# Altium integrated library NSC Simple PLD.IntLib: 508 symbols (part 9 of 10)
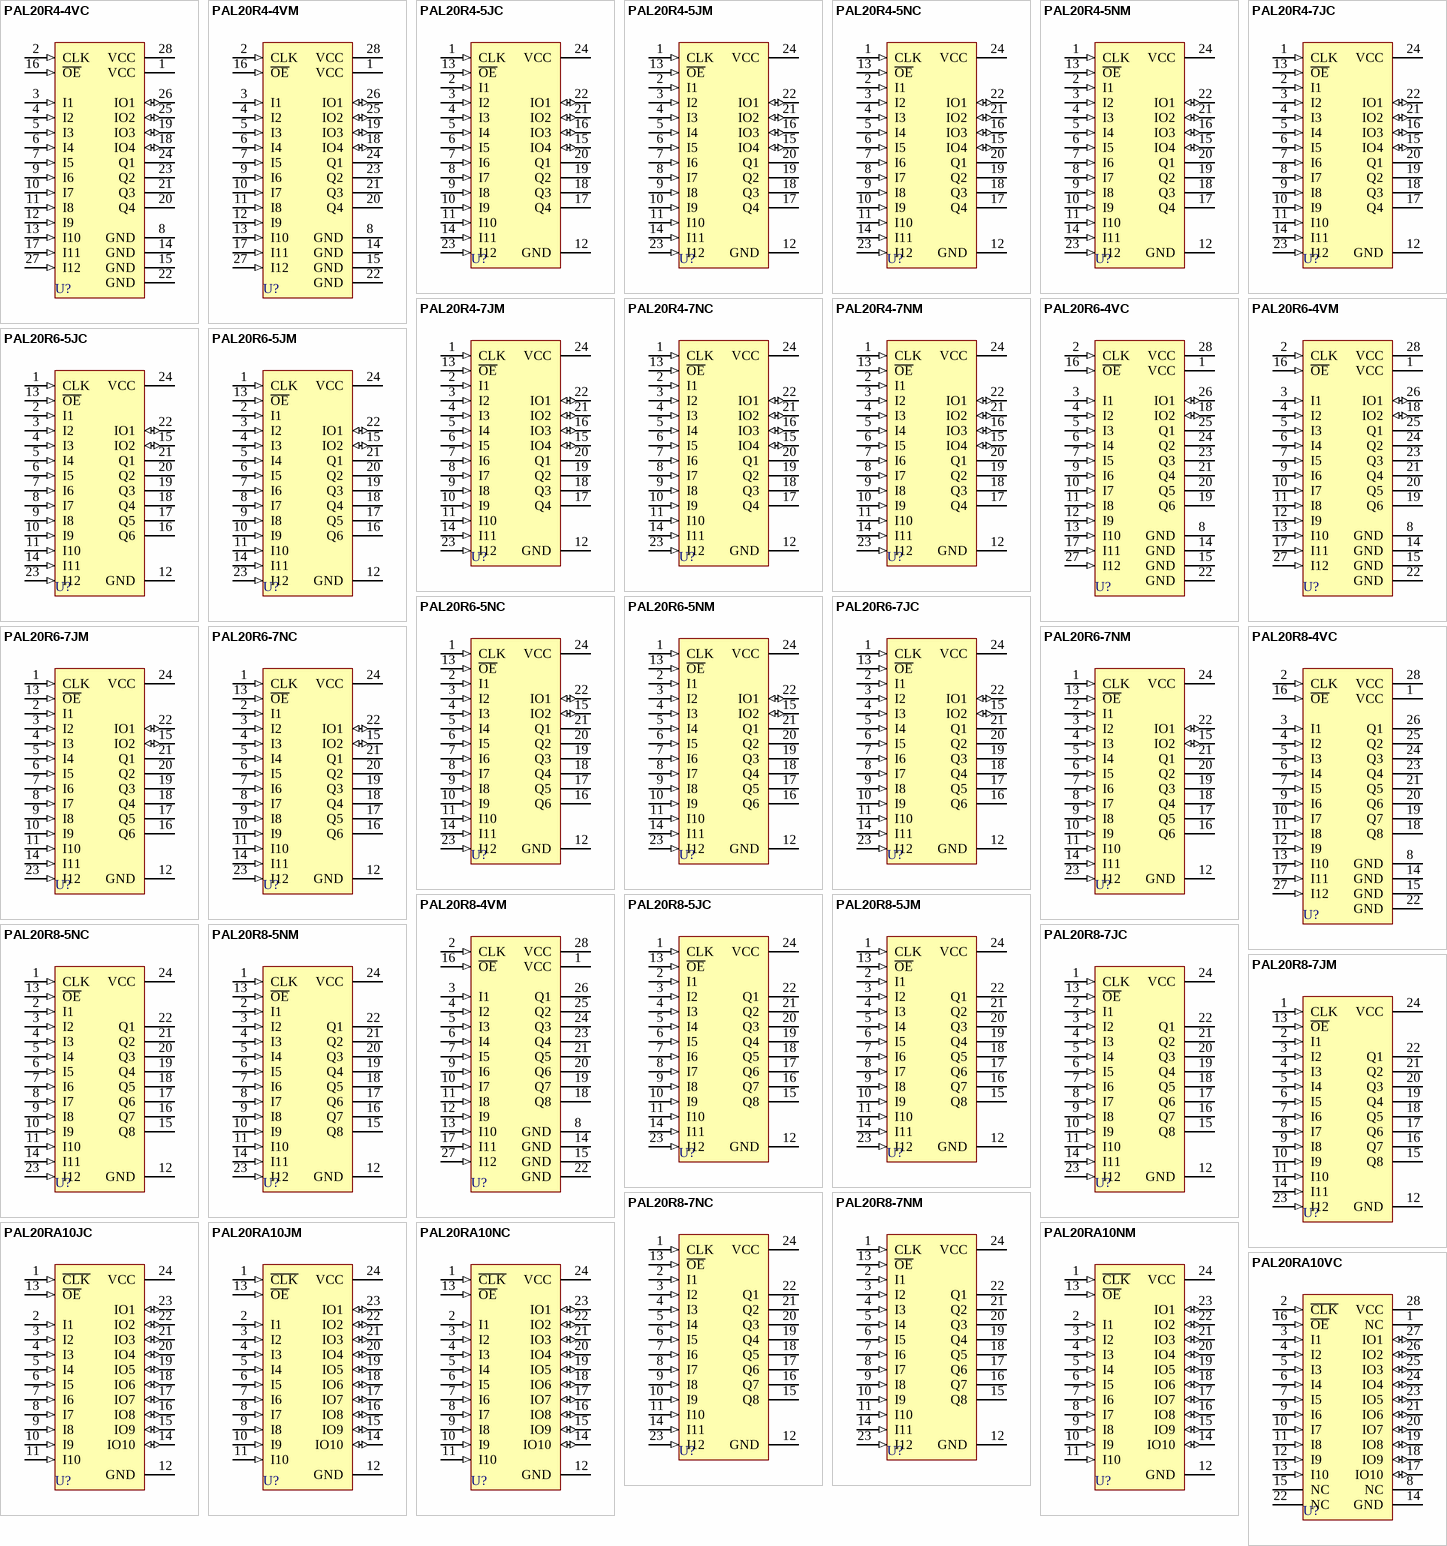
[diagram p22: symbols PAL20R4-4VC to PAL20RA10VC]

## PAL20R8-5JC
designator U?
24-Pin Medium PAL; Published: 15-Apr-2002; LatestRevisionDate: 04-Mar-2005; LatestRevisionNote: Stylized 3D Model Added.; DatasheetVersion: 1991; PackageVersion: 2000; PackageReference: J24F; Publisher: Altium Limited; PackageDescription: DIP; 24 Leads; Row Spacing 7.62 mm; Pitch 2.54 mm; Code_JEDEC: MS-001-AF; ComponentLink1Description: Manufacturer Link; ComponentLink1URL: http://www.national.com/
footprint J24F (DIP; 24 Leads; Row Spacing 7.62 mm; Pitch 2.54 mm)
3D model J24F (DIP; 24 Leads; Row Spacing 7.62 mm; Pitch 2.54 mm)
pins: 1 CLK (in), 2 I1 (in), 3 I2 (in), 4 I3 (in), 5 I4 (in), 6 I5 (in), 7 I6 (in), 8 I7 (in), 9 I8 (in), 10 I9 (in), 11 I10 (in), 12 GND (power), 13 ~{OE} (in), 14 I11 (in), 15 Q8 (hiz), 16 Q7 (hiz), 17 Q6 (hiz), 18 Q5 (hiz), 19 Q4 (hiz), 20 Q3 (hiz), 21 Q2 (hiz), 22 Q1 (hiz), 23 I12 (in), 24 VCC (power)

## PAL20R8-5JM
designator U?
24-Pin Medium PAL; Published: 15-Apr-2002; LatestRevisionDate: 04-Mar-2005; LatestRevisionNote: Stylized 3D Model Added.; DatasheetVersion: 1991; PackageVersion: 2000; PackageReference: J24F; Publisher: Altium Limited; PackageDescription: DIP; 24 Leads; Row Spacing 7.62 mm; Pitch 2.54 mm; Code_JEDEC: MS-001-AF; ComponentLink1Description: Manufacturer Link; ComponentLink1URL: http://www.national.com/
footprint J24F (DIP; 24 Leads; Row Spacing 7.62 mm; Pitch 2.54 mm)
3D model J24F (DIP; 24 Leads; Row Spacing 7.62 mm; Pitch 2.54 mm)
pins: 1 CLK (in), 2 I1 (in), 3 I2 (in), 4 I3 (in), 5 I4 (in), 6 I5 (in), 7 I6 (in), 8 I7 (in), 9 I8 (in), 10 I9 (in), 11 I10 (in), 12 GND (power), 13 ~{OE} (in), 14 I11 (in), 15 Q8 (hiz), 16 Q7 (hiz), 17 Q6 (hiz), 18 Q5 (hiz), 19 Q4 (hiz), 20 Q3 (hiz), 21 Q2 (hiz), 22 Q1 (hiz), 23 I12 (in), 24 VCC (power)

## PAL20R8-5NC
designator U?
24-Pin Medium PAL; Published: 15-Apr-2002; LatestRevisionDate: 04-Mar-2005; LatestRevisionNote: Stylized 3D Model Added.; DatasheetVersion: 1991; PackageVersion: 2000; PackageReference: N24C; Publisher: Altium Limited; PackageDescription: DIP; 24 Leads; Row Spacing 7.62 mm; Pitch 2.54 mm; Code_JEDEC: MS-001-AF; ComponentLink1Description: Manufacturer Link; ComponentLink1URL: http://www.national.com/
footprint N24C (DIP; 24 Leads; Row Spacing 7.62 mm; Pitch 2.54 mm)
3D model J24F (DIP; 24 Leads; Row Spacing 7.62 mm; Pitch 2.54 mm)
pins: 1 CLK (in), 2 I1 (in), 3 I2 (in), 4 I3 (in), 5 I4 (in), 6 I5 (in), 7 I6 (in), 8 I7 (in), 9 I8 (in), 10 I9 (in), 11 I10 (in), 12 GND (power), 13 ~{OE} (in), 14 I11 (in), 15 Q8 (hiz), 16 Q7 (hiz), 17 Q6 (hiz), 18 Q5 (hiz), 19 Q4 (hiz), 20 Q3 (hiz), 21 Q2 (hiz), 22 Q1 (hiz), 23 I12 (in), 24 VCC (power)

## PAL20R8-5NM
designator U?
24-Pin Medium PAL; Published: 15-Apr-2002; LatestRevisionDate: 04-Mar-2005; LatestRevisionNote: Stylized 3D Model Added.; DatasheetVersion: 1991; PackageVersion: 2000; PackageReference: N24C; Publisher: Altium Limited; PackageDescription: DIP; 24 Leads; Row Spacing 7.62 mm; Pitch 2.54 mm; Code_JEDEC: MS-001-AF; ComponentLink1Description: Manufacturer Link; ComponentLink1URL: http://www.national.com/
footprint N24C (DIP; 24 Leads; Row Spacing 7.62 mm; Pitch 2.54 mm)
3D model J24F (DIP; 24 Leads; Row Spacing 7.62 mm; Pitch 2.54 mm)
pins: 1 CLK (in), 2 I1 (in), 3 I2 (in), 4 I3 (in), 5 I4 (in), 6 I5 (in), 7 I6 (in), 8 I7 (in), 9 I8 (in), 10 I9 (in), 11 I10 (in), 12 GND (power), 13 ~{OE} (in), 14 I11 (in), 15 Q8 (hiz), 16 Q7 (hiz), 17 Q6 (hiz), 18 Q5 (hiz), 19 Q4 (hiz), 20 Q3 (hiz), 21 Q2 (hiz), 22 Q1 (hiz), 23 I12 (in), 24 VCC (power)

## PAL20R8-7JC
designator U?
24-Pin Medium PAL; Published: 15-Apr-2002; LatestRevisionDate: 04-Mar-2005; LatestRevisionNote: Stylized 3D Model Added.; DatasheetVersion: 1991; PackageVersion: 2000; PackageReference: J24F; Publisher: Altium Limited; PackageDescription: DIP; 24 Leads; Row Spacing 7.62 mm; Pitch 2.54 mm; Code_JEDEC: MS-001-AF; ComponentLink1Description: Manufacturer Link; ComponentLink1URL: http://www.national.com/
footprint J24F (DIP; 24 Leads; Row Spacing 7.62 mm; Pitch 2.54 mm)
3D model J24F (DIP; 24 Leads; Row Spacing 7.62 mm; Pitch 2.54 mm)
pins: 1 CLK (in), 2 I1 (in), 3 I2 (in), 4 I3 (in), 5 I4 (in), 6 I5 (in), 7 I6 (in), 8 I7 (in), 9 I8 (in), 10 I9 (in), 11 I10 (in), 12 GND (power), 13 ~{OE} (in), 14 I11 (in), 15 Q8 (hiz), 16 Q7 (hiz), 17 Q6 (hiz), 18 Q5 (hiz), 19 Q4 (hiz), 20 Q3 (hiz), 21 Q2 (hiz), 22 Q1 (hiz), 23 I12 (in), 24 VCC (power)

## PAL20R8-7JM
designator U?
24-Pin Medium PAL; Published: 15-Apr-2002; LatestRevisionDate: 04-Mar-2005; LatestRevisionNote: Stylized 3D Model Added.; DatasheetVersion: 1991; PackageVersion: 2000; PackageReference: J24F; Publisher: Altium Limited; PackageDescription: DIP; 24 Leads; Row Spacing 7.62 mm; Pitch 2.54 mm; Code_JEDEC: MS-001-AF; ComponentLink1Description: Manufacturer Link; ComponentLink1URL: http://www.national.com/
footprint J24F (DIP; 24 Leads; Row Spacing 7.62 mm; Pitch 2.54 mm)
3D model J24F (DIP; 24 Leads; Row Spacing 7.62 mm; Pitch 2.54 mm)
pins: 1 CLK (in), 2 I1 (in), 3 I2 (in), 4 I3 (in), 5 I4 (in), 6 I5 (in), 7 I6 (in), 8 I7 (in), 9 I8 (in), 10 I9 (in), 11 I10 (in), 12 GND (power), 13 ~{OE} (in), 14 I11 (in), 15 Q8 (hiz), 16 Q7 (hiz), 17 Q6 (hiz), 18 Q5 (hiz), 19 Q4 (hiz), 20 Q3 (hiz), 21 Q2 (hiz), 22 Q1 (hiz), 23 I12 (in), 24 VCC (power)

## PAL20R8-7NC
designator U?
24-Pin Medium PAL; Published: 15-Apr-2002; LatestRevisionDate: 04-Mar-2005; LatestRevisionNote: Stylized 3D Model Added.; DatasheetVersion: 1991; PackageVersion: 2000; PackageReference: N24C; Publisher: Altium Limited; PackageDescription: DIP; 24 Leads; Row Spacing 7.62 mm; Pitch 2.54 mm; Code_JEDEC: MS-001-AF; ComponentLink1Description: Manufacturer Link; ComponentLink1URL: http://www.national.com/
footprint N24C (DIP; 24 Leads; Row Spacing 7.62 mm; Pitch 2.54 mm)
3D model J24F (DIP; 24 Leads; Row Spacing 7.62 mm; Pitch 2.54 mm)
pins: 1 CLK (in), 2 I1 (in), 3 I2 (in), 4 I3 (in), 5 I4 (in), 6 I5 (in), 7 I6 (in), 8 I7 (in), 9 I8 (in), 10 I9 (in), 11 I10 (in), 12 GND (power), 13 ~{OE} (in), 14 I11 (in), 15 Q8 (hiz), 16 Q7 (hiz), 17 Q6 (hiz), 18 Q5 (hiz), 19 Q4 (hiz), 20 Q3 (hiz), 21 Q2 (hiz), 22 Q1 (hiz), 23 I12 (in), 24 VCC (power)

## PAL20R8-7NM
designator U?
24-Pin Medium PAL; Published: 15-Apr-2002; LatestRevisionDate: 04-Mar-2005; LatestRevisionNote: Stylized 3D Model Added.; DatasheetVersion: 1991; PackageVersion: 2000; PackageReference: N24C; Publisher: Altium Limited; PackageDescription: DIP; 24 Leads; Row Spacing 7.62 mm; Pitch 2.54 mm; Code_JEDEC: MS-001-AF; ComponentLink1Description: Manufacturer Link; ComponentLink1URL: http://www.national.com/
footprint N24C (DIP; 24 Leads; Row Spacing 7.62 mm; Pitch 2.54 mm)
3D model J24F (DIP; 24 Leads; Row Spacing 7.62 mm; Pitch 2.54 mm)
pins: 1 CLK (in), 2 I1 (in), 3 I2 (in), 4 I3 (in), 5 I4 (in), 6 I5 (in), 7 I6 (in), 8 I7 (in), 9 I8 (in), 10 I9 (in), 11 I10 (in), 12 GND (power), 13 ~{OE} (in), 14 I11 (in), 15 Q8 (hiz), 16 Q7 (hiz), 17 Q6 (hiz), 18 Q5 (hiz), 19 Q4 (hiz), 20 Q3 (hiz), 21 Q2 (hiz), 22 Q1 (hiz), 23 I12 (in), 24 VCC (power)

## PAL20RA10JC
designator U?
24-Pin PAL; Published: 15-Apr-2002; LatestRevisionDate: 04-Mar-2005; LatestRevisionNote: Stylized 3D Model Added.; DatasheetVersion: 1990; PackageVersion: 2000; PackageReference: J24F; Publisher: Altium Limited; PackageDescription: DIP; 24 Leads; Row Spacing 7.62 mm; Pitch 2.54 mm; Code_JEDEC: MS-001-AF; ComponentLink1Description: Manufacturer Link; ComponentLink1URL: http://www.national.com/
footprint J24F (DIP; 24 Leads; Row Spacing 7.62 mm; Pitch 2.54 mm)
3D model J24F (DIP; 24 Leads; Row Spacing 7.62 mm; Pitch 2.54 mm)
pins: 1 ~{CLK} (in), 2 I1 (in), 3 I2 (in), 4 I3 (in), 5 I4 (in), 6 I5 (in), 7 I6 (in), 8 I7 (in), 9 I8 (in), 10 I9 (in), 11 I10 (in), 12 GND (power), 13 ~{OE} (in), 14 IO10 (io), 15 IO9 (io), 16 IO8 (io), 17 IO7 (io), 18 IO6 (io), 19 IO5 (io), 20 IO4 (io), 21 IO3 (io), 22 IO2 (io), 23 IO1 (io), 24 VCC (power)

## PAL20RA10JM
designator U?
24-Pin PAL; Published: 15-Apr-2002; LatestRevisionDate: 04-Mar-2005; LatestRevisionNote: Stylized 3D Model Added.; DatasheetVersion: 1990; PackageVersion: 2000; PackageReference: J24F; Publisher: Altium Limited; PackageDescription: DIP; 24 Leads; Row Spacing 7.62 mm; Pitch 2.54 mm; Code_JEDEC: MS-001-AF; ComponentLink1Description: Manufacturer Link; ComponentLink1URL: http://www.national.com/
footprint J24F (DIP; 24 Leads; Row Spacing 7.62 mm; Pitch 2.54 mm)
3D model J24F (DIP; 24 Leads; Row Spacing 7.62 mm; Pitch 2.54 mm)
pins: 1 ~{CLK} (in), 2 I1 (in), 3 I2 (in), 4 I3 (in), 5 I4 (in), 6 I5 (in), 7 I6 (in), 8 I7 (in), 9 I8 (in), 10 I9 (in), 11 I10 (in), 12 GND (power), 13 ~{OE} (in), 14 IO10 (io), 15 IO9 (io), 16 IO8 (io), 17 IO7 (io), 18 IO6 (io), 19 IO5 (io), 20 IO4 (io), 21 IO3 (io), 22 IO2 (io), 23 IO1 (io), 24 VCC (power)

## PAL20RA10NC
designator U?
24-Pin PAL; Published: 15-Apr-2002; LatestRevisionDate: 04-Mar-2005; LatestRevisionNote: Stylized 3D Model Added.; DatasheetVersion: 1990; PackageVersion: 2000; PackageReference: N24C; Publisher: Altium Limited; PackageDescription: DIP; 24 Leads; Row Spacing 7.62 mm; Pitch 2.54 mm; Code_JEDEC: MS-001-AF; ComponentLink1Description: Manufacturer Link; ComponentLink1URL: http://www.national.com/
footprint N24C (DIP; 24 Leads; Row Spacing 7.62 mm; Pitch 2.54 mm)
3D model J24F (DIP; 24 Leads; Row Spacing 7.62 mm; Pitch 2.54 mm)
pins: 1 ~{CLK} (in), 2 I1 (in), 3 I2 (in), 4 I3 (in), 5 I4 (in), 6 I5 (in), 7 I6 (in), 8 I7 (in), 9 I8 (in), 10 I9 (in), 11 I10 (in), 12 GND (power), 13 ~{OE} (in), 14 IO10 (io), 15 IO9 (io), 16 IO8 (io), 17 IO7 (io), 18 IO6 (io), 19 IO5 (io), 20 IO4 (io), 21 IO3 (io), 22 IO2 (io), 23 IO1 (io), 24 VCC (power)

## PAL20RA10NM
designator U?
24-Pin PAL; Published: 15-Apr-2002; LatestRevisionDate: 04-Mar-2005; LatestRevisionNote: Stylized 3D Model Added.; DatasheetVersion: 1990; PackageVersion: 2000; PackageReference: N24C; Publisher: Altium Limited; PackageDescription: DIP; 24 Leads; Row Spacing 7.62 mm; Pitch 2.54 mm; Code_JEDEC: MS-001-AF; ComponentLink1Description: Manufacturer Link; ComponentLink1URL: http://www.national.com/
footprint N24C (DIP; 24 Leads; Row Spacing 7.62 mm; Pitch 2.54 mm)
3D model J24F (DIP; 24 Leads; Row Spacing 7.62 mm; Pitch 2.54 mm)
pins: 1 ~{CLK} (in), 2 I1 (in), 3 I2 (in), 4 I3 (in), 5 I4 (in), 6 I5 (in), 7 I6 (in), 8 I7 (in), 9 I8 (in), 10 I9 (in), 11 I10 (in), 12 GND (power), 13 ~{OE} (in), 14 IO10 (io), 15 IO9 (io), 16 IO8 (io), 17 IO7 (io), 18 IO6 (io), 19 IO5 (io), 20 IO4 (io), 21 IO3 (io), 22 IO2 (io), 23 IO1 (io), 24 VCC (power)

## PAL20RA10VC
designator U?
28-Pin PAL; Published: 15-Apr-2002; LatestRevisionDate: 13-Apr-2006; LatestRevisionNote: IPC-7351 Footprint Added.; DatasheetVersion: 1990; PackageVersion: 2000; PackageReference: V28A; Publisher: Altium Limited; PackageDescription: 28-Pin Leaded Chip Carrier 1.27 mm Pitch; Code_IPC: PLCC-28; ComponentLink1Description: Manufacturer Link; ComponentLink1URL: http://www.national.com/
footprint V28A_N (Leaded Chip Carrier, 28-Leads, Body 11.5x11.5mm, Pitch 1.27mm, IPC Medium Density)
footprint V28A_L (Leaded Chip Carrier, 28-Leads, Body 11.5x11.5mm, Pitch 1.27mm, IPC High Density)
footprint V28A_M (Leaded Chip Carrier, 28-Leads, Body 11.5x11.5mm, Pitch 1.27mm, IPC Low Density)
3D model PAL20RA10-V28A (28-Pin Leaded Chip Carrier 1.27 mm Pitch)
pins: 1 NC, 2 ~{CLK} (in), 3 I1 (in), 4 I2 (in), 5 I3 (in), 6 I4 (in), 7 I5 (in), 8 NC, 9 I6 (in), 10 I7 (in), 11 I8 (in), 12 I9 (in), 13 I10 (in), 14 GND (power), 15 NC, 16 ~{OE} (in), 17 IO10 (io), 18 IO9 (io), 19 IO8 (io), 20 IO7 (io), 21 IO6 (io), 22 NC, 23 IO5 (io), 24 IO4 (io), 25 IO3 (io), 26 IO2 (io), 27 IO1 (io), 28 VCC (power)

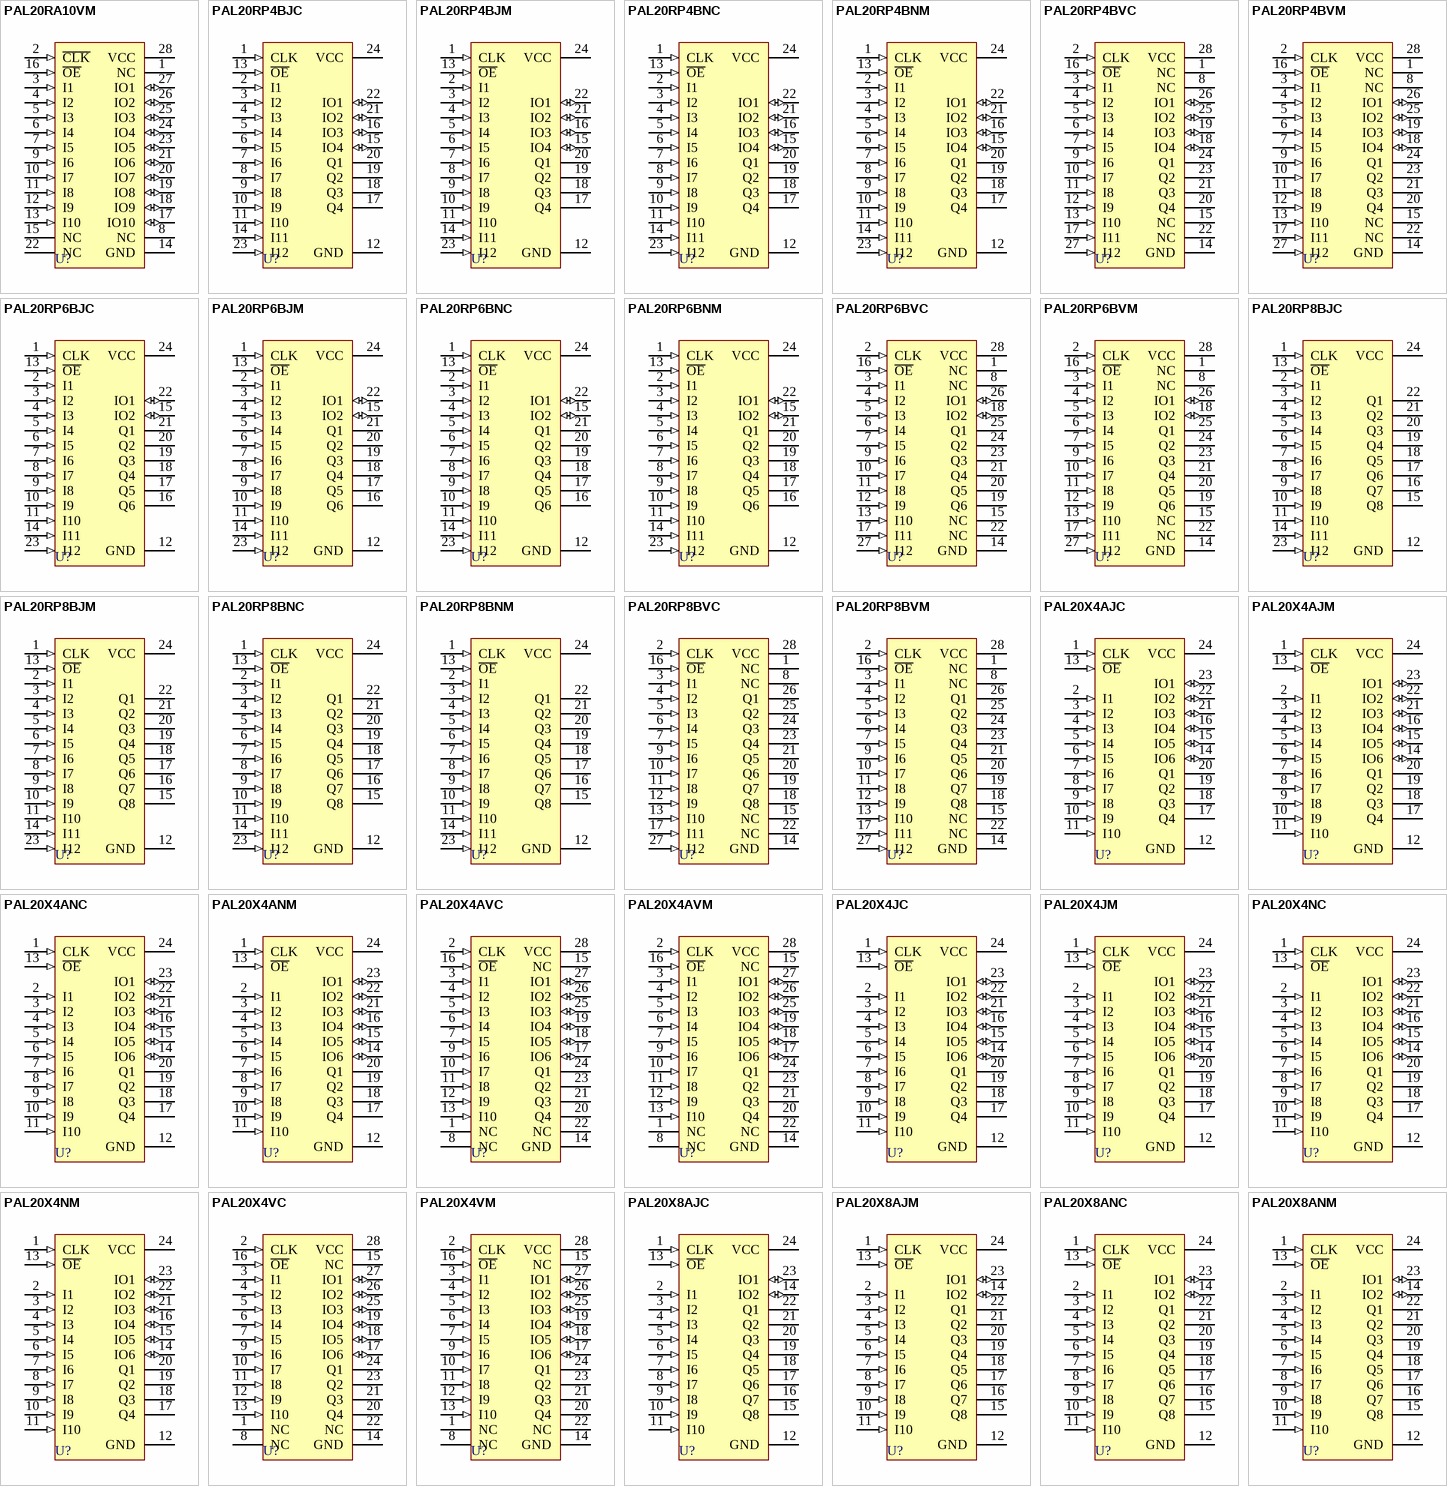
[diagram p13: symbols PAL20RA10VM to PAL20X8ANM]

## PAL20RA10VM
designator U?
28-Pin PAL; Published: 15-Apr-2002; LatestRevisionDate: 13-Apr-2006; LatestRevisionNote: IPC-7351 Footprint Added.; DatasheetVersion: 1990; PackageVersion: 2000; PackageReference: V28A; Publisher: Altium Limited; PackageDescription: 28-Pin Leaded Chip Carrier 1.27 mm Pitch; Code_IPC: PLCC-28; ComponentLink1Description: Manufacturer Link; ComponentLink1URL: http://www.national.com/
footprint V28A_N (Leaded Chip Carrier, 28-Leads, Body 11.5x11.5mm, Pitch 1.27mm, IPC Medium Density)
footprint V28A_L (Leaded Chip Carrier, 28-Leads, Body 11.5x11.5mm, Pitch 1.27mm, IPC High Density)
footprint V28A_M (Leaded Chip Carrier, 28-Leads, Body 11.5x11.5mm, Pitch 1.27mm, IPC Low Density)
3D model PAL20RA10-V28A (28-Pin Leaded Chip Carrier 1.27 mm Pitch)
pins: 1 NC, 2 ~{CLK} (in), 3 I1 (in), 4 I2 (in), 5 I3 (in), 6 I4 (in), 7 I5 (in), 8 NC, 9 I6 (in), 10 I7 (in), 11 I8 (in), 12 I9 (in), 13 I10 (in), 14 GND (power), 15 NC, 16 ~{OE} (in), 17 IO10 (io), 18 IO9 (io), 19 IO8 (io), 20 IO7 (io), 21 IO6 (io), 22 NC, 23 IO5 (io), 24 IO4 (io), 25 IO3 (io), 26 IO2 (io), 27 IO1 (io), 28 VCC (power)

## PAL20RP4BJC
designator U?
24-Pin Polarity PAL; Published: 15-Apr-2002; LatestRevisionDate: 04-Mar-2005; LatestRevisionNote: Stylized 3D Model Added.; DatasheetVersion: 1990; PackageVersion: 2000; PackageReference: J24F; Publisher: Altium Limited; PackageDescription: DIP; 24 Leads; Row Spacing 7.62 mm; Pitch 2.54 mm; Code_JEDEC: MS-001-AF; ComponentLink1Description: Manufacturer Link; ComponentLink1URL: http://www.national.com/
footprint J24F (DIP; 24 Leads; Row Spacing 7.62 mm; Pitch 2.54 mm)
3D model J24F (DIP; 24 Leads; Row Spacing 7.62 mm; Pitch 2.54 mm)
pins: 1 CLK (in), 2 I1 (in), 3 I2 (in), 4 I3 (in), 5 I4 (in), 6 I5 (in), 7 I6 (in), 8 I7 (in), 9 I8 (in), 10 I9 (in), 11 I10 (in), 12 GND (power), 13 ~{OE} (in), 14 I11 (in), 15 IO4 (io), 16 IO3 (io), 17 Q4 (hiz), 18 Q3 (hiz), 19 Q2 (hiz), 20 Q1 (hiz), 21 IO2 (io), 22 IO1 (io), 23 I12 (in), 24 VCC (power)

## PAL20RP4BJM
designator U?
24-Pin Polarity PAL; Published: 15-Apr-2002; LatestRevisionDate: 04-Mar-2005; LatestRevisionNote: Stylized 3D Model Added.; DatasheetVersion: 1990; PackageVersion: 2000; PackageReference: J24F; Publisher: Altium Limited; PackageDescription: DIP; 24 Leads; Row Spacing 7.62 mm; Pitch 2.54 mm; Code_JEDEC: MS-001-AF; ComponentLink1Description: Manufacturer Link; ComponentLink1URL: http://www.national.com/
footprint J24F (DIP; 24 Leads; Row Spacing 7.62 mm; Pitch 2.54 mm)
3D model J24F (DIP; 24 Leads; Row Spacing 7.62 mm; Pitch 2.54 mm)
pins: 1 CLK (in), 2 I1 (in), 3 I2 (in), 4 I3 (in), 5 I4 (in), 6 I5 (in), 7 I6 (in), 8 I7 (in), 9 I8 (in), 10 I9 (in), 11 I10 (in), 12 GND (power), 13 ~{OE} (in), 14 I11 (in), 15 IO4 (io), 16 IO3 (io), 17 Q4 (hiz), 18 Q3 (hiz), 19 Q2 (hiz), 20 Q1 (hiz), 21 IO2 (io), 22 IO1 (io), 23 I12 (in), 24 VCC (power)

## PAL20RP4BNC
designator U?
24-Pin Polarity PAL; Published: 15-Apr-2002; LatestRevisionDate: 04-Mar-2005; LatestRevisionNote: Stylized 3D Model Added.; DatasheetVersion: 1990; PackageVersion: 2000; PackageReference: N24C; Publisher: Altium Limited; PackageDescription: DIP; 24 Leads; Row Spacing 7.62 mm; Pitch 2.54 mm; Code_JEDEC: MS-001-AF; ComponentLink1Description: Manufacturer Link; ComponentLink1URL: http://www.national.com/
footprint N24C (DIP; 24 Leads; Row Spacing 7.62 mm; Pitch 2.54 mm)
3D model J24F (DIP; 24 Leads; Row Spacing 7.62 mm; Pitch 2.54 mm)
pins: 1 CLK (in), 2 I1 (in), 3 I2 (in), 4 I3 (in), 5 I4 (in), 6 I5 (in), 7 I6 (in), 8 I7 (in), 9 I8 (in), 10 I9 (in), 11 I10 (in), 12 GND (power), 13 ~{OE} (in), 14 I11 (in), 15 IO4 (io), 16 IO3 (io), 17 Q4 (hiz), 18 Q3 (hiz), 19 Q2 (hiz), 20 Q1 (hiz), 21 IO2 (io), 22 IO1 (io), 23 I12 (in), 24 VCC (power)

## PAL20RP4BNM
designator U?
24-Pin Polarity PAL; Published: 15-Apr-2002; LatestRevisionDate: 04-Mar-2005; LatestRevisionNote: Stylized 3D Model Added.; DatasheetVersion: 1990; PackageVersion: 2000; PackageReference: N24C; Publisher: Altium Limited; PackageDescription: DIP; 24 Leads; Row Spacing 7.62 mm; Pitch 2.54 mm; Code_JEDEC: MS-001-AF; ComponentLink1Description: Manufacturer Link; ComponentLink1URL: http://www.national.com/
footprint N24C (DIP; 24 Leads; Row Spacing 7.62 mm; Pitch 2.54 mm)
3D model J24F (DIP; 24 Leads; Row Spacing 7.62 mm; Pitch 2.54 mm)
pins: 1 CLK (in), 2 I1 (in), 3 I2 (in), 4 I3 (in), 5 I4 (in), 6 I5 (in), 7 I6 (in), 8 I7 (in), 9 I8 (in), 10 I9 (in), 11 I10 (in), 12 GND (power), 13 ~{OE} (in), 14 I11 (in), 15 IO4 (io), 16 IO3 (io), 17 Q4 (hiz), 18 Q3 (hiz), 19 Q2 (hiz), 20 Q1 (hiz), 21 IO2 (io), 22 IO1 (io), 23 I12 (in), 24 VCC (power)

## PAL20RP4BVC
designator U?
28-Pin Polarity PAL; Published: 15-Apr-2002; LatestRevisionDate: 13-Apr-2006; LatestRevisionNote: IPC-7351 Footprint Added.; DatasheetVersion: 1990; PackageVersion: 2000; PackageReference: V28A; Publisher: Altium Limited; PackageDescription: 28-Pin Leaded Chip Carrier 1.27 mm Pitch; Code_IPC: PLCC-28; ComponentLink1Description: Manufacturer Link; ComponentLink1URL: http://www.national.com/
footprint V28A_N (Leaded Chip Carrier, 28-Leads, Body 11.5x11.5mm, Pitch 1.27mm, IPC Medium Density)
footprint V28A_L (Leaded Chip Carrier, 28-Leads, Body 11.5x11.5mm, Pitch 1.27mm, IPC High Density)
footprint V28A_M (Leaded Chip Carrier, 28-Leads, Body 11.5x11.5mm, Pitch 1.27mm, IPC Low Density)
3D model PAL20RP4B-V28A (28-Pin Leaded Chip Carrier 1.27 mm Pitch)
pins: 1 NC, 2 CLK (in), 3 I1 (in), 4 I2 (in), 5 I3 (in), 6 I4 (in), 7 I5 (in), 8 NC, 9 I6 (in), 10 I7 (in), 11 I8 (in), 12 I9 (in), 13 I10 (in), 14 GND (power), 15 NC, 16 ~{OE} (in), 17 I11 (in), 18 IO4 (io), 19 IO3 (io), 20 Q4 (hiz), 21 Q3 (hiz), 22 NC, 23 Q2 (hiz), 24 Q1 (hiz), 25 IO2 (io), 26 IO1 (io), 27 I12 (in), 28 VCC (power)

## PAL20RP4BVM
designator U?
28-Pin Polarity PAL; Published: 15-Apr-2002; LatestRevisionDate: 13-Apr-2006; LatestRevisionNote: IPC-7351 Footprint Added.; DatasheetVersion: 1990; PackageVersion: 2000; PackageReference: V28A; Publisher: Altium Limited; PackageDescription: 28-Pin Leaded Chip Carrier 1.27 mm Pitch; Code_IPC: PLCC-28; ComponentLink1Description: Manufacturer Link; ComponentLink1URL: http://www.national.com/
footprint V28A_N (Leaded Chip Carrier, 28-Leads, Body 11.5x11.5mm, Pitch 1.27mm, IPC Medium Density)
footprint V28A_L (Leaded Chip Carrier, 28-Leads, Body 11.5x11.5mm, Pitch 1.27mm, IPC High Density)
footprint V28A_M (Leaded Chip Carrier, 28-Leads, Body 11.5x11.5mm, Pitch 1.27mm, IPC Low Density)
3D model PAL20RP4B-V28A (28-Pin Leaded Chip Carrier 1.27 mm Pitch)
pins: 1 NC, 2 CLK (in), 3 I1 (in), 4 I2 (in), 5 I3 (in), 6 I4 (in), 7 I5 (in), 8 NC, 9 I6 (in), 10 I7 (in), 11 I8 (in), 12 I9 (in), 13 I10 (in), 14 GND (power), 15 NC, 16 ~{OE} (in), 17 I11 (in), 18 IO4 (io), 19 IO3 (io), 20 Q4 (hiz), 21 Q3 (hiz), 22 NC, 23 Q2 (hiz), 24 Q1 (hiz), 25 IO2 (io), 26 IO1 (io), 27 I12 (in), 28 VCC (power)

## PAL20RP6BJC
designator U?
24-Pin Polarity PAL; Published: 15-Apr-2002; LatestRevisionDate: 04-Mar-2005; LatestRevisionNote: Stylized 3D Model Added.; DatasheetVersion: 1990; PackageVersion: 2000; PackageReference: J24F; Publisher: Altium Limited; PackageDescription: DIP; 24 Leads; Row Spacing 7.62 mm; Pitch 2.54 mm; Code_JEDEC: MS-001-AF; ComponentLink1Description: Manufacturer Link; ComponentLink1URL: http://www.national.com/
footprint J24F (DIP; 24 Leads; Row Spacing 7.62 mm; Pitch 2.54 mm)
3D model J24F (DIP; 24 Leads; Row Spacing 7.62 mm; Pitch 2.54 mm)
pins: 1 CLK (in), 2 I1 (in), 3 I2 (in), 4 I3 (in), 5 I4 (in), 6 I5 (in), 7 I6 (in), 8 I7 (in), 9 I8 (in), 10 I9 (in), 11 I10 (in), 12 GND (power), 13 ~{OE} (in), 14 I11 (in), 15 IO2 (io), 16 Q6 (hiz), 17 Q5 (hiz), 18 Q4 (hiz), 19 Q3 (hiz), 20 Q2 (hiz), 21 Q1 (hiz), 22 IO1 (io), 23 I12 (in), 24 VCC (power)

## PAL20RP6BJM
designator U?
24-Pin Polarity PAL; Published: 15-Apr-2002; LatestRevisionDate: 04-Mar-2005; LatestRevisionNote: Stylized 3D Model Added.; DatasheetVersion: 1990; PackageVersion: 2000; PackageReference: J24F; Publisher: Altium Limited; PackageDescription: DIP; 24 Leads; Row Spacing 7.62 mm; Pitch 2.54 mm; Code_JEDEC: MS-001-AF; ComponentLink1Description: Manufacturer Link; ComponentLink1URL: http://www.national.com/
footprint J24F (DIP; 24 Leads; Row Spacing 7.62 mm; Pitch 2.54 mm)
3D model J24F (DIP; 24 Leads; Row Spacing 7.62 mm; Pitch 2.54 mm)
pins: 1 CLK (in), 2 I1 (in), 3 I2 (in), 4 I3 (in), 5 I4 (in), 6 I5 (in), 7 I6 (in), 8 I7 (in), 9 I8 (in), 10 I9 (in), 11 I10 (in), 12 GND (power), 13 ~{OE} (in), 14 I11 (in), 15 IO2 (io), 16 Q6 (hiz), 17 Q5 (hiz), 18 Q4 (hiz), 19 Q3 (hiz), 20 Q2 (hiz), 21 Q1 (hiz), 22 IO1 (io), 23 I12 (in), 24 VCC (power)

## PAL20RP6BNC
designator U?
24-Pin Polarity PAL; Published: 15-Apr-2002; LatestRevisionDate: 04-Mar-2005; LatestRevisionNote: Stylized 3D Model Added.; DatasheetVersion: 1990; PackageVersion: 2000; PackageReference: N24C; Publisher: Altium Limited; PackageDescription: DIP; 24 Leads; Row Spacing 7.62 mm; Pitch 2.54 mm; Code_JEDEC: MS-001-AF; ComponentLink1Description: Manufacturer Link; ComponentLink1URL: http://www.national.com/
footprint N24C (DIP; 24 Leads; Row Spacing 7.62 mm; Pitch 2.54 mm)
3D model J24F (DIP; 24 Leads; Row Spacing 7.62 mm; Pitch 2.54 mm)
pins: 1 CLK (in), 2 I1 (in), 3 I2 (in), 4 I3 (in), 5 I4 (in), 6 I5 (in), 7 I6 (in), 8 I7 (in), 9 I8 (in), 10 I9 (in), 11 I10 (in), 12 GND (power), 13 ~{OE} (in), 14 I11 (in), 15 IO2 (io), 16 Q6 (hiz), 17 Q5 (hiz), 18 Q4 (hiz), 19 Q3 (hiz), 20 Q2 (hiz), 21 Q1 (hiz), 22 IO1 (io), 23 I12 (in), 24 VCC (power)

## PAL20RP6BNM
designator U?
24-Pin Polarity PAL; Published: 15-Apr-2002; LatestRevisionDate: 04-Mar-2005; LatestRevisionNote: Stylized 3D Model Added.; DatasheetVersion: 1990; PackageVersion: 2000; PackageReference: N24C; Publisher: Altium Limited; PackageDescription: DIP; 24 Leads; Row Spacing 7.62 mm; Pitch 2.54 mm; Code_JEDEC: MS-001-AF; ComponentLink1Description: Manufacturer Link; ComponentLink1URL: http://www.national.com/
footprint N24C (DIP; 24 Leads; Row Spacing 7.62 mm; Pitch 2.54 mm)
3D model J24F (DIP; 24 Leads; Row Spacing 7.62 mm; Pitch 2.54 mm)
pins: 1 CLK (in), 2 I1 (in), 3 I2 (in), 4 I3 (in), 5 I4 (in), 6 I5 (in), 7 I6 (in), 8 I7 (in), 9 I8 (in), 10 I9 (in), 11 I10 (in), 12 GND (power), 13 ~{OE} (in), 14 I11 (in), 15 IO2 (io), 16 Q6 (hiz), 17 Q5 (hiz), 18 Q4 (hiz), 19 Q3 (hiz), 20 Q2 (hiz), 21 Q1 (hiz), 22 IO1 (io), 23 I12 (in), 24 VCC (power)

## PAL20RP6BVC
designator U?
28-Pin Polarity PAL; Published: 15-Apr-2002; LatestRevisionDate: 13-Apr-2006; LatestRevisionNote: IPC-7351 Footprint Added.; DatasheetVersion: 1990; PackageVersion: 2000; PackageReference: V28A; Publisher: Altium Limited; PackageDescription: 28-Pin Leaded Chip Carrier 1.27 mm Pitch; Code_IPC: PLCC-28; ComponentLink1Description: Manufacturer Link; ComponentLink1URL: http://www.national.com/
footprint V28A_N (Leaded Chip Carrier, 28-Leads, Body 11.5x11.5mm, Pitch 1.27mm, IPC Medium Density)
footprint V28A_L (Leaded Chip Carrier, 28-Leads, Body 11.5x11.5mm, Pitch 1.27mm, IPC High Density)
footprint V28A_M (Leaded Chip Carrier, 28-Leads, Body 11.5x11.5mm, Pitch 1.27mm, IPC Low Density)
3D model PAL20RP6B-V28A (28-Pin Leaded Chip Carrier 1.27 mm Pitch)
pins: 1 NC, 2 CLK (in), 3 I1 (in), 4 I2 (in), 5 I3 (in), 6 I4 (in), 7 I5 (in), 8 NC, 9 I6 (in), 10 I7 (in), 11 I8 (in), 12 I9 (in), 13 I10 (in), 14 GND (power), 15 NC, 16 ~{OE} (in), 17 I11 (in), 18 IO2 (io), 19 Q6 (hiz), 20 Q5 (hiz), 21 Q4 (hiz), 22 NC, 23 Q3 (hiz), 24 Q2 (hiz), 25 Q1 (hiz), 26 IO1 (io), 27 I12 (in), 28 VCC (power)

## PAL20RP6BVM
designator U?
28-Pin Polarity PAL; Published: 15-Apr-2002; LatestRevisionDate: 13-Apr-2006; LatestRevisionNote: IPC-7351 Footprint Added.; DatasheetVersion: 1990; PackageVersion: 2000; PackageReference: V28A; Publisher: Altium Limited; PackageDescription: 28-Pin Leaded Chip Carrier 1.27 mm Pitch; Code_IPC: PLCC-28; ComponentLink1Description: Manufacturer Link; ComponentLink1URL: http://www.national.com/
footprint V28A_N (Leaded Chip Carrier, 28-Leads, Body 11.5x11.5mm, Pitch 1.27mm, IPC Medium Density)
footprint V28A_L (Leaded Chip Carrier, 28-Leads, Body 11.5x11.5mm, Pitch 1.27mm, IPC High Density)
footprint V28A_M (Leaded Chip Carrier, 28-Leads, Body 11.5x11.5mm, Pitch 1.27mm, IPC Low Density)
3D model PAL20RP6B-V28A (28-Pin Leaded Chip Carrier 1.27 mm Pitch)
pins: 1 NC, 2 CLK (in), 3 I1 (in), 4 I2 (in), 5 I3 (in), 6 I4 (in), 7 I5 (in), 8 NC, 9 I6 (in), 10 I7 (in), 11 I8 (in), 12 I9 (in), 13 I10 (in), 14 GND (power), 15 NC, 16 ~{OE} (in), 17 I11 (in), 18 IO2 (io), 19 Q6 (hiz), 20 Q5 (hiz), 21 Q4 (hiz), 22 NC, 23 Q3 (hiz), 24 Q2 (hiz), 25 Q1 (hiz), 26 IO1 (io), 27 I12 (in), 28 VCC (power)

## PAL20RP8BJC
designator U?
24-Pin Polarity PAL; Published: 15-Apr-2002; LatestRevisionDate: 04-Mar-2005; LatestRevisionNote: Stylized 3D Model Added.; DatasheetVersion: 1990; PackageVersion: 2000; PackageReference: J24F; Publisher: Altium Limited; PackageDescription: DIP; 24 Leads; Row Spacing 7.62 mm; Pitch 2.54 mm; Code_JEDEC: MS-001-AF; ComponentLink1Description: Manufacturer Link; ComponentLink1URL: http://www.national.com/
footprint J24F (DIP; 24 Leads; Row Spacing 7.62 mm; Pitch 2.54 mm)
3D model J24F (DIP; 24 Leads; Row Spacing 7.62 mm; Pitch 2.54 mm)
pins: 1 CLK (in), 2 I1 (in), 3 I2 (in), 4 I3 (in), 5 I4 (in), 6 I5 (in), 7 I6 (in), 8 I7 (in), 9 I8 (in), 10 I9 (in), 11 I10 (in), 12 GND (power), 13 ~{OE} (in), 14 I11 (in), 15 Q8 (hiz), 16 Q7 (hiz), 17 Q6 (hiz), 18 Q5 (hiz), 19 Q4 (hiz), 20 Q3 (hiz), 21 Q2 (hiz), 22 Q1 (hiz), 23 I12 (in), 24 VCC (power)

## PAL20RP8BJM
designator U?
24-Pin Polarity PAL; Published: 15-Apr-2002; LatestRevisionDate: 04-Mar-2005; LatestRevisionNote: Stylized 3D Model Added.; DatasheetVersion: 1990; PackageVersion: 2000; PackageReference: J24F; Publisher: Altium Limited; PackageDescription: DIP; 24 Leads; Row Spacing 7.62 mm; Pitch 2.54 mm; Code_JEDEC: MS-001-AF; ComponentLink1Description: Manufacturer Link; ComponentLink1URL: http://www.national.com/
footprint J24F (DIP; 24 Leads; Row Spacing 7.62 mm; Pitch 2.54 mm)
3D model J24F (DIP; 24 Leads; Row Spacing 7.62 mm; Pitch 2.54 mm)
pins: 1 CLK (in), 2 I1 (in), 3 I2 (in), 4 I3 (in), 5 I4 (in), 6 I5 (in), 7 I6 (in), 8 I7 (in), 9 I8 (in), 10 I9 (in), 11 I10 (in), 12 GND (power), 13 ~{OE} (in), 14 I11 (in), 15 Q8 (hiz), 16 Q7 (hiz), 17 Q6 (hiz), 18 Q5 (hiz), 19 Q4 (hiz), 20 Q3 (hiz), 21 Q2 (hiz), 22 Q1 (hiz), 23 I12 (in), 24 VCC (power)

## PAL20RP8BNC
designator U?
24-Pin Polarity PAL; Published: 15-Apr-2002; LatestRevisionDate: 04-Mar-2005; LatestRevisionNote: Stylized 3D Model Added.; DatasheetVersion: 1990; PackageVersion: 2000; PackageReference: N24C; Publisher: Altium Limited; PackageDescription: DIP; 24 Leads; Row Spacing 7.62 mm; Pitch 2.54 mm; Code_JEDEC: MS-001-AF; ComponentLink1Description: Manufacturer Link; ComponentLink1URL: http://www.national.com/
footprint N24C (DIP; 24 Leads; Row Spacing 7.62 mm; Pitch 2.54 mm)
3D model J24F (DIP; 24 Leads; Row Spacing 7.62 mm; Pitch 2.54 mm)
pins: 1 CLK (in), 2 I1 (in), 3 I2 (in), 4 I3 (in), 5 I4 (in), 6 I5 (in), 7 I6 (in), 8 I7 (in), 9 I8 (in), 10 I9 (in), 11 I10 (in), 12 GND (power), 13 ~{OE} (in), 14 I11 (in), 15 Q8 (hiz), 16 Q7 (hiz), 17 Q6 (hiz), 18 Q5 (hiz), 19 Q4 (hiz), 20 Q3 (hiz), 21 Q2 (hiz), 22 Q1 (hiz), 23 I12 (in), 24 VCC (power)

## PAL20RP8BNM
designator U?
24-Pin Polarity PAL; Published: 15-Apr-2002; LatestRevisionDate: 04-Mar-2005; LatestRevisionNote: Stylized 3D Model Added.; DatasheetVersion: 1990; PackageVersion: 2000; PackageReference: N24C; Publisher: Altium Limited; PackageDescription: DIP; 24 Leads; Row Spacing 7.62 mm; Pitch 2.54 mm; Code_JEDEC: MS-001-AF; ComponentLink1Description: Manufacturer Link; ComponentLink1URL: http://www.national.com/
footprint N24C (DIP; 24 Leads; Row Spacing 7.62 mm; Pitch 2.54 mm)
3D model J24F (DIP; 24 Leads; Row Spacing 7.62 mm; Pitch 2.54 mm)
pins: 1 CLK (in), 2 I1 (in), 3 I2 (in), 4 I3 (in), 5 I4 (in), 6 I5 (in), 7 I6 (in), 8 I7 (in), 9 I8 (in), 10 I9 (in), 11 I10 (in), 12 GND (power), 13 ~{OE} (in), 14 I11 (in), 15 Q8 (hiz), 16 Q7 (hiz), 17 Q6 (hiz), 18 Q5 (hiz), 19 Q4 (hiz), 20 Q3 (hiz), 21 Q2 (hiz), 22 Q1 (hiz), 23 I12 (in), 24 VCC (power)

## PAL20RP8BVC
designator U?
28-Pin Polarity PAL; Published: 15-Apr-2002; LatestRevisionDate: 13-Apr-2006; LatestRevisionNote: IPC-7351 Footprint Added.; DatasheetVersion: 1990; PackageVersion: 2000; PackageReference: V28A; Publisher: Altium Limited; PackageDescription: 28-Pin Leaded Chip Carrier 1.27 mm Pitch; Code_IPC: PLCC-28; ComponentLink1Description: Manufacturer Link; ComponentLink1URL: http://www.national.com/
footprint V28A_N (Leaded Chip Carrier, 28-Leads, Body 11.5x11.5mm, Pitch 1.27mm, IPC Medium Density)
footprint V28A_L (Leaded Chip Carrier, 28-Leads, Body 11.5x11.5mm, Pitch 1.27mm, IPC High Density)
footprint V28A_M (Leaded Chip Carrier, 28-Leads, Body 11.5x11.5mm, Pitch 1.27mm, IPC Low Density)
3D model PAL20RP8B-V28A (28-Pin Leaded Chip Carrier 1.27 mm Pitch)
pins: 1 NC, 2 CLK (in), 3 I1 (in), 4 I2 (in), 5 I3 (in), 6 I4 (in), 7 I5 (in), 8 NC, 9 I6 (in), 10 I7 (in), 11 I8 (in), 12 I9 (in), 13 I10 (in), 14 GND (power), 15 NC, 16 ~{OE} (in), 17 I11 (in), 18 Q8 (hiz), 19 Q7 (hiz), 20 Q6 (hiz), 21 Q5 (hiz), 22 NC, 23 Q4 (hiz), 24 Q3 (hiz), 25 Q2 (hiz), 26 Q1 (hiz), 27 I12 (in), 28 VCC (power)

## PAL20RP8BVM
designator U?
28-Pin Polarity PAL; Published: 15-Apr-2002; LatestRevisionDate: 13-Apr-2006; LatestRevisionNote: IPC-7351 Footprint Added.; DatasheetVersion: 1990; PackageVersion: 2000; PackageReference: V28A; Publisher: Altium Limited; PackageDescription: 28-Pin Leaded Chip Carrier 1.27 mm Pitch; Code_IPC: PLCC-28; ComponentLink1Description: Manufacturer Link; ComponentLink1URL: http://www.national.com/
footprint V28A_N (Leaded Chip Carrier, 28-Leads, Body 11.5x11.5mm, Pitch 1.27mm, IPC Medium Density)
footprint V28A_L (Leaded Chip Carrier, 28-Leads, Body 11.5x11.5mm, Pitch 1.27mm, IPC High Density)
footprint V28A_M (Leaded Chip Carrier, 28-Leads, Body 11.5x11.5mm, Pitch 1.27mm, IPC Low Density)
3D model PAL20RP8B-V28A (28-Pin Leaded Chip Carrier 1.27 mm Pitch)
pins: 1 NC, 2 CLK (in), 3 I1 (in), 4 I2 (in), 5 I3 (in), 6 I4 (in), 7 I5 (in), 8 NC, 9 I6 (in), 10 I7 (in), 11 I8 (in), 12 I9 (in), 13 I10 (in), 14 GND (power), 15 NC, 16 ~{OE} (in), 17 I11 (in), 18 Q8 (hiz), 19 Q7 (hiz), 20 Q6 (hiz), 21 Q5 (hiz), 22 NC, 23 Q4 (hiz), 24 Q3 (hiz), 25 Q2 (hiz), 26 Q1 (hiz), 27 I12 (in), 28 VCC (power)

## PAL20X4AJC
designator U?
24-Pin Exclusive-OR PAL; Published: 15-Apr-2002; LatestRevisionDate: 04-Mar-2005; LatestRevisionNote: Stylized 3D Model Added.; DatasheetVersion: 1990; PackageVersion: 2000; PackageReference: J24F; Publisher: Altium Limited; PackageDescription: DIP; 24 Leads; Row Spacing 7.62 mm; Pitch 2.54 mm; Code_JEDEC: MS-001-AF; ComponentLink1Description: Manufacturer Link; ComponentLink1URL: http://www.national.com/
footprint J24F (DIP; 24 Leads; Row Spacing 7.62 mm; Pitch 2.54 mm)
3D model J24F (DIP; 24 Leads; Row Spacing 7.62 mm; Pitch 2.54 mm)
pins: 1 CLK (in), 2 I1 (in), 3 I2 (in), 4 I3 (in), 5 I4 (in), 6 I5 (in), 7 I6 (in), 8 I7 (in), 9 I8 (in), 10 I9 (in), 11 I10 (in), 12 GND (power), 13 ~{OE} (in), 14 IO6 (io), 15 IO5 (io), 16 IO4 (io), 17 Q4 (hiz), 18 Q3 (hiz), 19 Q2 (hiz), 20 Q1 (hiz), 21 IO3 (io), 22 IO2 (io), 23 IO1 (io), 24 VCC (power)

## PAL20X4AJM
designator U?
24-Pin Exclusive-OR PAL; Published: 15-Apr-2002; LatestRevisionDate: 04-Mar-2005; LatestRevisionNote: Stylized 3D Model Added.; DatasheetVersion: 1990; PackageVersion: 2000; PackageReference: J24F; Publisher: Altium Limited; PackageDescription: DIP; 24 Leads; Row Spacing 7.62 mm; Pitch 2.54 mm; Code_JEDEC: MS-001-AF; ComponentLink1Description: Manufacturer Link; ComponentLink1URL: http://www.national.com/
footprint J24F (DIP; 24 Leads; Row Spacing 7.62 mm; Pitch 2.54 mm)
3D model J24F (DIP; 24 Leads; Row Spacing 7.62 mm; Pitch 2.54 mm)
pins: 1 CLK (in), 2 I1 (in), 3 I2 (in), 4 I3 (in), 5 I4 (in), 6 I5 (in), 7 I6 (in), 8 I7 (in), 9 I8 (in), 10 I9 (in), 11 I10 (in), 12 GND (power), 13 ~{OE} (in), 14 IO6 (io), 15 IO5 (io), 16 IO4 (io), 17 Q4 (hiz), 18 Q3 (hiz), 19 Q2 (hiz), 20 Q1 (hiz), 21 IO3 (io), 22 IO2 (io), 23 IO1 (io), 24 VCC (power)

## PAL20X4ANC
designator U?
24-Pin Exclusive-OR PAL; Published: 15-Apr-2002; LatestRevisionDate: 04-Mar-2005; LatestRevisionNote: Stylized 3D Model Added.; DatasheetVersion: 1990; PackageVersion: 2000; PackageReference: N24C; Publisher: Altium Limited; PackageDescription: DIP; 24 Leads; Row Spacing 7.62 mm; Pitch 2.54 mm; Code_JEDEC: MS-001-AF; ComponentLink1Description: Manufacturer Link; ComponentLink1URL: http://www.national.com/
footprint N24C (DIP; 24 Leads; Row Spacing 7.62 mm; Pitch 2.54 mm)
3D model J24F (DIP; 24 Leads; Row Spacing 7.62 mm; Pitch 2.54 mm)
pins: 1 CLK (in), 2 I1 (in), 3 I2 (in), 4 I3 (in), 5 I4 (in), 6 I5 (in), 7 I6 (in), 8 I7 (in), 9 I8 (in), 10 I9 (in), 11 I10 (in), 12 GND (power), 13 ~{OE} (in), 14 IO6 (io), 15 IO5 (io), 16 IO4 (io), 17 Q4 (hiz), 18 Q3 (hiz), 19 Q2 (hiz), 20 Q1 (hiz), 21 IO3 (io), 22 IO2 (io), 23 IO1 (io), 24 VCC (power)

## PAL20X4ANM
designator U?
24-Pin Exclusive-OR PAL; Published: 15-Apr-2002; LatestRevisionDate: 04-Mar-2005; LatestRevisionNote: Stylized 3D Model Added.; DatasheetVersion: 1990; PackageVersion: 2000; PackageReference: N24C; Publisher: Altium Limited; PackageDescription: DIP; 24 Leads; Row Spacing 7.62 mm; Pitch 2.54 mm; Code_JEDEC: MS-001-AF; ComponentLink1Description: Manufacturer Link; ComponentLink1URL: http://www.national.com/
footprint N24C (DIP; 24 Leads; Row Spacing 7.62 mm; Pitch 2.54 mm)
3D model J24F (DIP; 24 Leads; Row Spacing 7.62 mm; Pitch 2.54 mm)
pins: 1 CLK (in), 2 I1 (in), 3 I2 (in), 4 I3 (in), 5 I4 (in), 6 I5 (in), 7 I6 (in), 8 I7 (in), 9 I8 (in), 10 I9 (in), 11 I10 (in), 12 GND (power), 13 ~{OE} (in), 14 IO6 (io), 15 IO5 (io), 16 IO4 (io), 17 Q4 (hiz), 18 Q3 (hiz), 19 Q2 (hiz), 20 Q1 (hiz), 21 IO3 (io), 22 IO2 (io), 23 IO1 (io), 24 VCC (power)

## PAL20X4AVC
designator U?
28-Pin Exclusive-OR PAL; Published: 15-Apr-2002; LatestRevisionDate: 13-Apr-2006; LatestRevisionNote: IPC-7351 Footprint Added.; DatasheetVersion: 1990; PackageVersion: 2000; PackageReference: V28A; Publisher: Altium Limited; PackageDescription: 28-Pin Leaded Chip Carrier 1.27 mm Pitch; Code_IPC: PLCC-28; ComponentLink1Description: Manufacturer Link; ComponentLink1URL: http://www.national.com/
footprint V28A_N (Leaded Chip Carrier, 28-Leads, Body 11.5x11.5mm, Pitch 1.27mm, IPC Medium Density)
footprint V28A_L (Leaded Chip Carrier, 28-Leads, Body 11.5x11.5mm, Pitch 1.27mm, IPC High Density)
footprint V28A_M (Leaded Chip Carrier, 28-Leads, Body 11.5x11.5mm, Pitch 1.27mm, IPC Low Density)
3D model PAL20X4A-V28A (28-Pin Leaded Chip Carrier 1.27 mm Pitch)
pins: 1 NC, 2 CLK (in), 3 I1 (in), 4 I2 (in), 5 I3 (in), 6 I4 (in), 7 I5 (in), 8 NC, 9 I6 (in), 10 I7 (in), 11 I8 (in), 12 I9 (in), 13 I10 (in), 14 GND (power), 15 NC, 16 ~{OE} (in), 17 IO6 (io), 18 IO5 (io), 19 IO4 (io), 20 Q4 (hiz), 21 Q3 (hiz), 22 NC, 23 Q2 (hiz), 24 Q1 (hiz), 25 IO3 (io), 26 IO2 (io), 27 IO1 (io), 28 VCC (power)

## PAL20X4AVM
designator U?
28-Pin Exclusive-OR PAL; Published: 15-Apr-2002; LatestRevisionDate: 13-Apr-2006; LatestRevisionNote: IPC-7351 Footprint Added.; DatasheetVersion: 1990; PackageVersion: 2000; PackageReference: V28A; Publisher: Altium Limited; PackageDescription: 28-Pin Leaded Chip Carrier 1.27 mm Pitch; Code_IPC: PLCC-28; ComponentLink1Description: Manufacturer Link; ComponentLink1URL: http://www.national.com/
footprint V28A_N (Leaded Chip Carrier, 28-Leads, Body 11.5x11.5mm, Pitch 1.27mm, IPC Medium Density)
footprint V28A_L (Leaded Chip Carrier, 28-Leads, Body 11.5x11.5mm, Pitch 1.27mm, IPC High Density)
footprint V28A_M (Leaded Chip Carrier, 28-Leads, Body 11.5x11.5mm, Pitch 1.27mm, IPC Low Density)
3D model PAL20X4A-V28A (28-Pin Leaded Chip Carrier 1.27 mm Pitch)
pins: 1 NC, 2 CLK (in), 3 I1 (in), 4 I2 (in), 5 I3 (in), 6 I4 (in), 7 I5 (in), 8 NC, 9 I6 (in), 10 I7 (in), 11 I8 (in), 12 I9 (in), 13 I10 (in), 14 GND (power), 15 NC, 16 ~{OE} (in), 17 IO6 (io), 18 IO5 (io), 19 IO4 (io), 20 Q4 (hiz), 21 Q3 (hiz), 22 NC, 23 Q2 (hiz), 24 Q1 (hiz), 25 IO3 (io), 26 IO2 (io), 27 IO1 (io), 28 VCC (power)

## PAL20X4JC
designator U?
24-Pin Exclusive-OR PAL; Published: 15-Apr-2002; LatestRevisionDate: 04-Mar-2005; LatestRevisionNote: Stylized 3D Model Added.; DatasheetVersion: 1990; PackageVersion: 2000; PackageReference: J24F; Publisher: Altium Limited; PackageDescription: DIP; 24 Leads; Row Spacing 7.62 mm; Pitch 2.54 mm; Code_JEDEC: MS-001-AF; ComponentLink1Description: Manufacturer Link; ComponentLink1URL: http://www.national.com/
footprint J24F (DIP; 24 Leads; Row Spacing 7.62 mm; Pitch 2.54 mm)
3D model J24F (DIP; 24 Leads; Row Spacing 7.62 mm; Pitch 2.54 mm)
pins: 1 CLK (in), 2 I1 (in), 3 I2 (in), 4 I3 (in), 5 I4 (in), 6 I5 (in), 7 I6 (in), 8 I7 (in), 9 I8 (in), 10 I9 (in), 11 I10 (in), 12 GND (power), 13 ~{OE} (in), 14 IO6 (io), 15 IO5 (io), 16 IO4 (io), 17 Q4 (hiz), 18 Q3 (hiz), 19 Q2 (hiz), 20 Q1 (hiz), 21 IO3 (io), 22 IO2 (io), 23 IO1 (io), 24 VCC (power)

## PAL20X4JM
designator U?
24-Pin Exclusive-OR PAL; Published: 15-Apr-2002; LatestRevisionDate: 04-Mar-2005; LatestRevisionNote: Stylized 3D Model Added.; DatasheetVersion: 1990; PackageVersion: 2000; PackageReference: J24F; Publisher: Altium Limited; PackageDescription: DIP; 24 Leads; Row Spacing 7.62 mm; Pitch 2.54 mm; Code_JEDEC: MS-001-AF; ComponentLink1Description: Manufacturer Link; ComponentLink1URL: http://www.national.com/
footprint J24F (DIP; 24 Leads; Row Spacing 7.62 mm; Pitch 2.54 mm)
3D model J24F (DIP; 24 Leads; Row Spacing 7.62 mm; Pitch 2.54 mm)
pins: 1 CLK (in), 2 I1 (in), 3 I2 (in), 4 I3 (in), 5 I4 (in), 6 I5 (in), 7 I6 (in), 8 I7 (in), 9 I8 (in), 10 I9 (in), 11 I10 (in), 12 GND (power), 13 ~{OE} (in), 14 IO6 (io), 15 IO5 (io), 16 IO4 (io), 17 Q4 (hiz), 18 Q3 (hiz), 19 Q2 (hiz), 20 Q1 (hiz), 21 IO3 (io), 22 IO2 (io), 23 IO1 (io), 24 VCC (power)

## PAL20X4NC
designator U?
24-Pin Exclusive-OR PAL; Published: 15-Apr-2002; LatestRevisionDate: 04-Mar-2005; LatestRevisionNote: Stylized 3D Model Added.; DatasheetVersion: 1990; PackageVersion: 2000; PackageReference: N24C; Publisher: Altium Limited; PackageDescription: DIP; 24 Leads; Row Spacing 7.62 mm; Pitch 2.54 mm; Code_JEDEC: MS-001-AF; ComponentLink1Description: Manufacturer Link; ComponentLink1URL: http://www.national.com/
footprint N24C (DIP; 24 Leads; Row Spacing 7.62 mm; Pitch 2.54 mm)
3D model J24F (DIP; 24 Leads; Row Spacing 7.62 mm; Pitch 2.54 mm)
pins: 1 CLK (in), 2 I1 (in), 3 I2 (in), 4 I3 (in), 5 I4 (in), 6 I5 (in), 7 I6 (in), 8 I7 (in), 9 I8 (in), 10 I9 (in), 11 I10 (in), 12 GND (power), 13 ~{OE} (in), 14 IO6 (io), 15 IO5 (io), 16 IO4 (io), 17 Q4 (hiz), 18 Q3 (hiz), 19 Q2 (hiz), 20 Q1 (hiz), 21 IO3 (io), 22 IO2 (io), 23 IO1 (io), 24 VCC (power)

## PAL20X4NM
designator U?
24-Pin Exclusive-OR PAL; Published: 15-Apr-2002; LatestRevisionDate: 04-Mar-2005; LatestRevisionNote: Stylized 3D Model Added.; DatasheetVersion: 1990; PackageVersion: 2000; PackageReference: N24C; Publisher: Altium Limited; PackageDescription: DIP; 24 Leads; Row Spacing 7.62 mm; Pitch 2.54 mm; Code_JEDEC: MS-001-AF; ComponentLink1Description: Manufacturer Link; ComponentLink1URL: http://www.national.com/
footprint N24C (DIP; 24 Leads; Row Spacing 7.62 mm; Pitch 2.54 mm)
3D model J24F (DIP; 24 Leads; Row Spacing 7.62 mm; Pitch 2.54 mm)
pins: 1 CLK (in), 2 I1 (in), 3 I2 (in), 4 I3 (in), 5 I4 (in), 6 I5 (in), 7 I6 (in), 8 I7 (in), 9 I8 (in), 10 I9 (in), 11 I10 (in), 12 GND (power), 13 ~{OE} (in), 14 IO6 (io), 15 IO5 (io), 16 IO4 (io), 17 Q4 (hiz), 18 Q3 (hiz), 19 Q2 (hiz), 20 Q1 (hiz), 21 IO3 (io), 22 IO2 (io), 23 IO1 (io), 24 VCC (power)

## PAL20X4VC
designator U?
28-Pin Exclusive-OR PAL; Published: 15-Apr-2002; LatestRevisionDate: 13-Apr-2006; LatestRevisionNote: IPC-7351 Footprint Added.; DatasheetVersion: 1990; PackageVersion: 2000; PackageReference: V28A; Publisher: Altium Limited; PackageDescription: 28-Pin Leaded Chip Carrier 1.27 mm Pitch; Code_IPC: PLCC-28; ComponentLink1Description: Manufacturer Link; ComponentLink1URL: http://www.national.com/
footprint V28A_N (Leaded Chip Carrier, 28-Leads, Body 11.5x11.5mm, Pitch 1.27mm, IPC Medium Density)
footprint V28A_L (Leaded Chip Carrier, 28-Leads, Body 11.5x11.5mm, Pitch 1.27mm, IPC High Density)
footprint V28A_M (Leaded Chip Carrier, 28-Leads, Body 11.5x11.5mm, Pitch 1.27mm, IPC Low Density)
3D model PAL20X4-V28A (28-Pin Leaded Chip Carrier 1.27 mm Pitch)
pins: 1 NC, 2 CLK (in), 3 I1 (in), 4 I2 (in), 5 I3 (in), 6 I4 (in), 7 I5 (in), 8 NC, 9 I6 (in), 10 I7 (in), 11 I8 (in), 12 I9 (in), 13 I10 (in), 14 GND (power), 15 NC, 16 ~{OE} (in), 17 IO6 (io), 18 IO5 (io), 19 IO4 (io), 20 Q4 (hiz), 21 Q3 (hiz), 22 NC, 23 Q2 (hiz), 24 Q1 (hiz), 25 IO3 (io), 26 IO2 (io), 27 IO1 (io), 28 VCC (power)

## PAL20X4VM
designator U?
28-Pin Exclusive-OR PAL; Published: 15-Apr-2002; LatestRevisionDate: 13-Apr-2006; LatestRevisionNote: IPC-7351 Footprint Added.; DatasheetVersion: 1990; PackageVersion: 2000; PackageReference: V28A; Publisher: Altium Limited; PackageDescription: 28-Pin Leaded Chip Carrier 1.27 mm Pitch; Code_IPC: PLCC-28; ComponentLink1Description: Manufacturer Link; ComponentLink1URL: http://www.national.com/
footprint V28A_N (Leaded Chip Carrier, 28-Leads, Body 11.5x11.5mm, Pitch 1.27mm, IPC Medium Density)
footprint V28A_L (Leaded Chip Carrier, 28-Leads, Body 11.5x11.5mm, Pitch 1.27mm, IPC High Density)
footprint V28A_M (Leaded Chip Carrier, 28-Leads, Body 11.5x11.5mm, Pitch 1.27mm, IPC Low Density)
3D model PAL20X4-V28A (28-Pin Leaded Chip Carrier 1.27 mm Pitch)
pins: 1 NC, 2 CLK (in), 3 I1 (in), 4 I2 (in), 5 I3 (in), 6 I4 (in), 7 I5 (in), 8 NC, 9 I6 (in), 10 I7 (in), 11 I8 (in), 12 I9 (in), 13 I10 (in), 14 GND (power), 15 NC, 16 ~{OE} (in), 17 IO6 (io), 18 IO5 (io), 19 IO4 (io), 20 Q4 (hiz), 21 Q3 (hiz), 22 NC, 23 Q2 (hiz), 24 Q1 (hiz), 25 IO3 (io), 26 IO2 (io), 27 IO1 (io), 28 VCC (power)

## PAL20X8AJC
designator U?
24-Pin Exclusive-OR PAL; Published: 15-Apr-2002; LatestRevisionDate: 04-Mar-2005; LatestRevisionNote: Stylized 3D Model Added.; DatasheetVersion: 1990; PackageVersion: 2000; PackageReference: J24F; Publisher: Altium Limited; PackageDescription: DIP; 24 Leads; Row Spacing 7.62 mm; Pitch 2.54 mm; Code_JEDEC: MS-001-AF; ComponentLink1Description: Manufacturer Link; ComponentLink1URL: http://www.national.com/
footprint J24F (DIP; 24 Leads; Row Spacing 7.62 mm; Pitch 2.54 mm)
3D model J24F (DIP; 24 Leads; Row Spacing 7.62 mm; Pitch 2.54 mm)
pins: 1 CLK (in), 2 I1 (in), 3 I2 (in), 4 I3 (in), 5 I4 (in), 6 I5 (in), 7 I6 (in), 8 I7 (in), 9 I8 (in), 10 I9 (in), 11 I10 (in), 12 GND (power), 13 ~{OE} (in), 14 IO2 (io), 15 Q8 (hiz), 16 Q7 (hiz), 17 Q6 (hiz), 18 Q5 (hiz), 19 Q4 (hiz), 20 Q3 (hiz), 21 Q2 (hiz), 22 Q1 (hiz), 23 IO1 (io), 24 VCC (power)

## PAL20X8AJM
designator U?
24-Pin Exclusive-OR PAL; Published: 15-Apr-2002; LatestRevisionDate: 04-Mar-2005; LatestRevisionNote: Stylized 3D Model Added.; DatasheetVersion: 1990; PackageVersion: 2000; PackageReference: J24F; Publisher: Altium Limited; PackageDescription: DIP; 24 Leads; Row Spacing 7.62 mm; Pitch 2.54 mm; Code_JEDEC: MS-001-AF; ComponentLink1Description: Manufacturer Link; ComponentLink1URL: http://www.national.com/
footprint J24F (DIP; 24 Leads; Row Spacing 7.62 mm; Pitch 2.54 mm)
3D model J24F (DIP; 24 Leads; Row Spacing 7.62 mm; Pitch 2.54 mm)
pins: 1 CLK (in), 2 I1 (in), 3 I2 (in), 4 I3 (in), 5 I4 (in), 6 I5 (in), 7 I6 (in), 8 I7 (in), 9 I8 (in), 10 I9 (in), 11 I10 (in), 12 GND (power), 13 ~{OE} (in), 14 IO2 (io), 15 Q8 (hiz), 16 Q7 (hiz), 17 Q6 (hiz), 18 Q5 (hiz), 19 Q4 (hiz), 20 Q3 (hiz), 21 Q2 (hiz), 22 Q1 (hiz), 23 IO1 (io), 24 VCC (power)

## PAL20X8ANC
designator U?
24-Pin Exclusive-OR PAL; Published: 15-Apr-2002; LatestRevisionDate: 04-Mar-2005; LatestRevisionNote: Stylized 3D Model Added.; DatasheetVersion: 1990; PackageVersion: 2000; PackageReference: N24C; Publisher: Altium Limited; PackageDescription: DIP; 24 Leads; Row Spacing 7.62 mm; Pitch 2.54 mm; Code_JEDEC: MS-001-AF; ComponentLink1Description: Manufacturer Link; ComponentLink1URL: http://www.national.com/
footprint N24C (DIP; 24 Leads; Row Spacing 7.62 mm; Pitch 2.54 mm)
3D model J24F (DIP; 24 Leads; Row Spacing 7.62 mm; Pitch 2.54 mm)
pins: 1 CLK (in), 2 I1 (in), 3 I2 (in), 4 I3 (in), 5 I4 (in), 6 I5 (in), 7 I6 (in), 8 I7 (in), 9 I8 (in), 10 I9 (in), 11 I10 (in), 12 GND (power), 13 ~{OE} (in), 14 IO2 (io), 15 Q8 (hiz), 16 Q7 (hiz), 17 Q6 (hiz), 18 Q5 (hiz), 19 Q4 (hiz), 20 Q3 (hiz), 21 Q2 (hiz), 22 Q1 (hiz), 23 IO1 (io), 24 VCC (power)

## PAL20X8ANM
designator U?
24-Pin Exclusive-OR PAL; Published: 15-Apr-2002; LatestRevisionDate: 04-Mar-2005; LatestRevisionNote: Stylized 3D Model Added.; DatasheetVersion: 1990; PackageVersion: 2000; PackageReference: N24C; Publisher: Altium Limited; PackageDescription: DIP; 24 Leads; Row Spacing 7.62 mm; Pitch 2.54 mm; Code_JEDEC: MS-001-AF; ComponentLink1Description: Manufacturer Link; ComponentLink1URL: http://www.national.com/
footprint N24C (DIP; 24 Leads; Row Spacing 7.62 mm; Pitch 2.54 mm)
3D model J24F (DIP; 24 Leads; Row Spacing 7.62 mm; Pitch 2.54 mm)
pins: 1 CLK (in), 2 I1 (in), 3 I2 (in), 4 I3 (in), 5 I4 (in), 6 I5 (in), 7 I6 (in), 8 I7 (in), 9 I8 (in), 10 I9 (in), 11 I10 (in), 12 GND (power), 13 ~{OE} (in), 14 IO2 (io), 15 Q8 (hiz), 16 Q7 (hiz), 17 Q6 (hiz), 18 Q5 (hiz), 19 Q4 (hiz), 20 Q3 (hiz), 21 Q2 (hiz), 22 Q1 (hiz), 23 IO1 (io), 24 VCC (power)

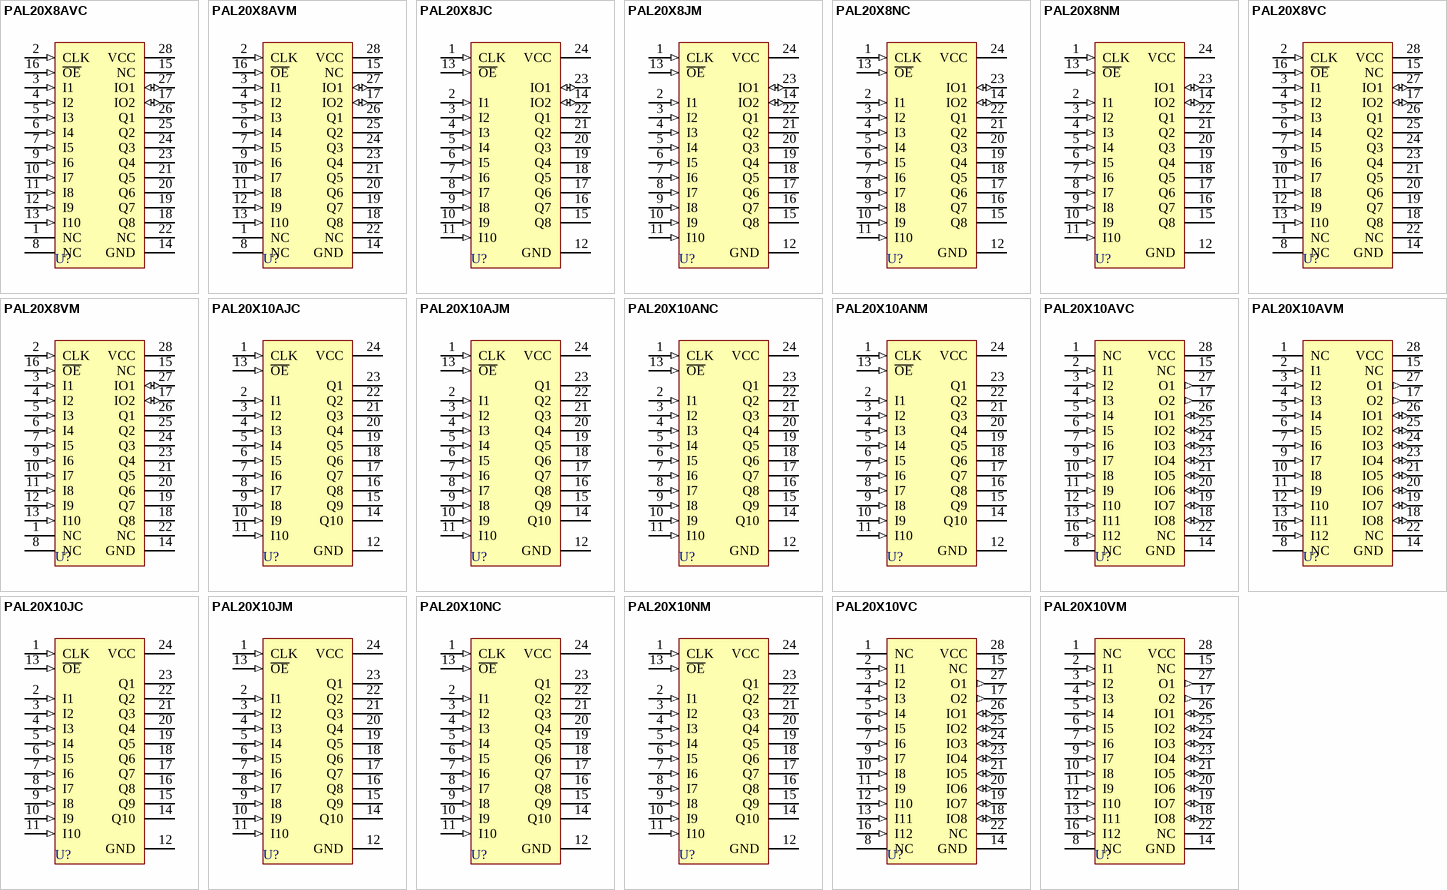
[diagram p14: symbols PAL20X8AVC to PAL20X10VM]

## PAL20X8AVC
designator U?
28-Pin Exclusive-OR PAL; Published: 15-Apr-2002; LatestRevisionDate: 13-Apr-2006; LatestRevisionNote: IPC-7351 Footprint Added.; DatasheetVersion: 1990; PackageVersion: 2000; PackageReference: V28A; Publisher: Altium Limited; PackageDescription: 28-Pin Leaded Chip Carrier 1.27 mm Pitch; Code_IPC: PLCC-28; ComponentLink1Description: Manufacturer Link; ComponentLink1URL: http://www.national.com/
footprint V28A_N (Leaded Chip Carrier, 28-Leads, Body 11.5x11.5mm, Pitch 1.27mm, IPC Medium Density)
footprint V28A_L (Leaded Chip Carrier, 28-Leads, Body 11.5x11.5mm, Pitch 1.27mm, IPC High Density)
footprint V28A_M (Leaded Chip Carrier, 28-Leads, Body 11.5x11.5mm, Pitch 1.27mm, IPC Low Density)
3D model PAL20X8A-V28A (28-Pin Leaded Chip Carrier 1.27 mm Pitch)
pins: 1 NC, 2 CLK (in), 3 I1 (in), 4 I2 (in), 5 I3 (in), 6 I4 (in), 7 I5 (in), 8 NC, 9 I6 (in), 10 I7 (in), 11 I8 (in), 12 I9 (in), 13 I10 (in), 14 GND (power), 15 NC, 16 ~{OE} (in), 17 IO2 (io), 18 Q8 (hiz), 19 Q7 (hiz), 20 Q6 (hiz), 21 Q5 (hiz), 22 NC, 23 Q4 (hiz), 24 Q3 (hiz), 25 Q2 (hiz), 26 Q1 (hiz), 27 IO1 (io), 28 VCC (power)

## PAL20X8AVM
designator U?
28-Pin Exclusive-OR PAL; Published: 15-Apr-2002; LatestRevisionDate: 13-Apr-2006; LatestRevisionNote: IPC-7351 Footprint Added.; DatasheetVersion: 1990; PackageVersion: 2000; PackageReference: V28A; Publisher: Altium Limited; PackageDescription: 28-Pin Leaded Chip Carrier 1.27 mm Pitch; Code_IPC: PLCC-28; ComponentLink1Description: Manufacturer Link; ComponentLink1URL: http://www.national.com/
footprint V28A_N (Leaded Chip Carrier, 28-Leads, Body 11.5x11.5mm, Pitch 1.27mm, IPC Medium Density)
footprint V28A_L (Leaded Chip Carrier, 28-Leads, Body 11.5x11.5mm, Pitch 1.27mm, IPC High Density)
footprint V28A_M (Leaded Chip Carrier, 28-Leads, Body 11.5x11.5mm, Pitch 1.27mm, IPC Low Density)
3D model PAL20X8A-V28A (28-Pin Leaded Chip Carrier 1.27 mm Pitch)
pins: 1 NC, 2 CLK (in), 3 I1 (in), 4 I2 (in), 5 I3 (in), 6 I4 (in), 7 I5 (in), 8 NC, 9 I6 (in), 10 I7 (in), 11 I8 (in), 12 I9 (in), 13 I10 (in), 14 GND (power), 15 NC, 16 ~{OE} (in), 17 IO2 (io), 18 Q8 (hiz), 19 Q7 (hiz), 20 Q6 (hiz), 21 Q5 (hiz), 22 NC, 23 Q4 (hiz), 24 Q3 (hiz), 25 Q2 (hiz), 26 Q1 (hiz), 27 IO1 (io), 28 VCC (power)

## PAL20X8JC
designator U?
24-Pin Exclusive-OR PAL; Published: 15-Apr-2002; LatestRevisionDate: 04-Mar-2005; LatestRevisionNote: Stylized 3D Model Added.; DatasheetVersion: 1990; PackageVersion: 2000; PackageReference: J24F; Publisher: Altium Limited; PackageDescription: DIP; 24 Leads; Row Spacing 7.62 mm; Pitch 2.54 mm; Code_JEDEC: MS-001-AF; ComponentLink1Description: Manufacturer Link; ComponentLink1URL: http://www.national.com/
footprint J24F (DIP; 24 Leads; Row Spacing 7.62 mm; Pitch 2.54 mm)
3D model J24F (DIP; 24 Leads; Row Spacing 7.62 mm; Pitch 2.54 mm)
pins: 1 CLK (in), 2 I1 (in), 3 I2 (in), 4 I3 (in), 5 I4 (in), 6 I5 (in), 7 I6 (in), 8 I7 (in), 9 I8 (in), 10 I9 (in), 11 I10 (in), 12 GND (power), 13 ~{OE} (in), 14 IO2 (io), 15 Q8 (hiz), 16 Q7 (hiz), 17 Q6 (hiz), 18 Q5 (hiz), 19 Q4 (hiz), 20 Q3 (hiz), 21 Q2 (hiz), 22 Q1 (hiz), 23 IO1 (io), 24 VCC (power)

## PAL20X8JM
designator U?
24-Pin Exclusive-OR PAL; Published: 15-Apr-2002; LatestRevisionDate: 04-Mar-2005; LatestRevisionNote: Stylized 3D Model Added.; DatasheetVersion: 1990; PackageVersion: 2000; PackageReference: J24F; Publisher: Altium Limited; PackageDescription: DIP; 24 Leads; Row Spacing 7.62 mm; Pitch 2.54 mm; Code_JEDEC: MS-001-AF; ComponentLink1Description: Manufacturer Link; ComponentLink1URL: http://www.national.com/
footprint J24F (DIP; 24 Leads; Row Spacing 7.62 mm; Pitch 2.54 mm)
3D model J24F (DIP; 24 Leads; Row Spacing 7.62 mm; Pitch 2.54 mm)
pins: 1 CLK (in), 2 I1 (in), 3 I2 (in), 4 I3 (in), 5 I4 (in), 6 I5 (in), 7 I6 (in), 8 I7 (in), 9 I8 (in), 10 I9 (in), 11 I10 (in), 12 GND (power), 13 ~{OE} (in), 14 IO2 (io), 15 Q8 (hiz), 16 Q7 (hiz), 17 Q6 (hiz), 18 Q5 (hiz), 19 Q4 (hiz), 20 Q3 (hiz), 21 Q2 (hiz), 22 Q1 (hiz), 23 IO1 (io), 24 VCC (power)

## PAL20X8NC
designator U?
24-Pin Exclusive-OR PAL; Published: 15-Apr-2002; LatestRevisionDate: 04-Mar-2005; LatestRevisionNote: Stylized 3D Model Added.; DatasheetVersion: 1990; PackageVersion: 2000; PackageReference: N24C; Publisher: Altium Limited; PackageDescription: DIP; 24 Leads; Row Spacing 7.62 mm; Pitch 2.54 mm; Code_JEDEC: MS-001-AF; ComponentLink1Description: Manufacturer Link; ComponentLink1URL: http://www.national.com/
footprint N24C (DIP; 24 Leads; Row Spacing 7.62 mm; Pitch 2.54 mm)
3D model J24F (DIP; 24 Leads; Row Spacing 7.62 mm; Pitch 2.54 mm)
pins: 1 CLK (in), 2 I1 (in), 3 I2 (in), 4 I3 (in), 5 I4 (in), 6 I5 (in), 7 I6 (in), 8 I7 (in), 9 I8 (in), 10 I9 (in), 11 I10 (in), 12 GND (power), 13 ~{OE} (in), 14 IO2 (io), 15 Q8 (hiz), 16 Q7 (hiz), 17 Q6 (hiz), 18 Q5 (hiz), 19 Q4 (hiz), 20 Q3 (hiz), 21 Q2 (hiz), 22 Q1 (hiz), 23 IO1 (io), 24 VCC (power)